# Altium footprint library TTC_Lib.PcbLib: 21 footprints (part 1 of 2)
Each footprint in its own frame and in the unit in brackets; x right, y up, seen from the top. Pads: shape width x height; smd on the part's side, far side on the other; paste and mask are expansions set on the pad; w line width, h text height; cw(c..) or ccw(c..) is an arc to the next point about the centre after c.
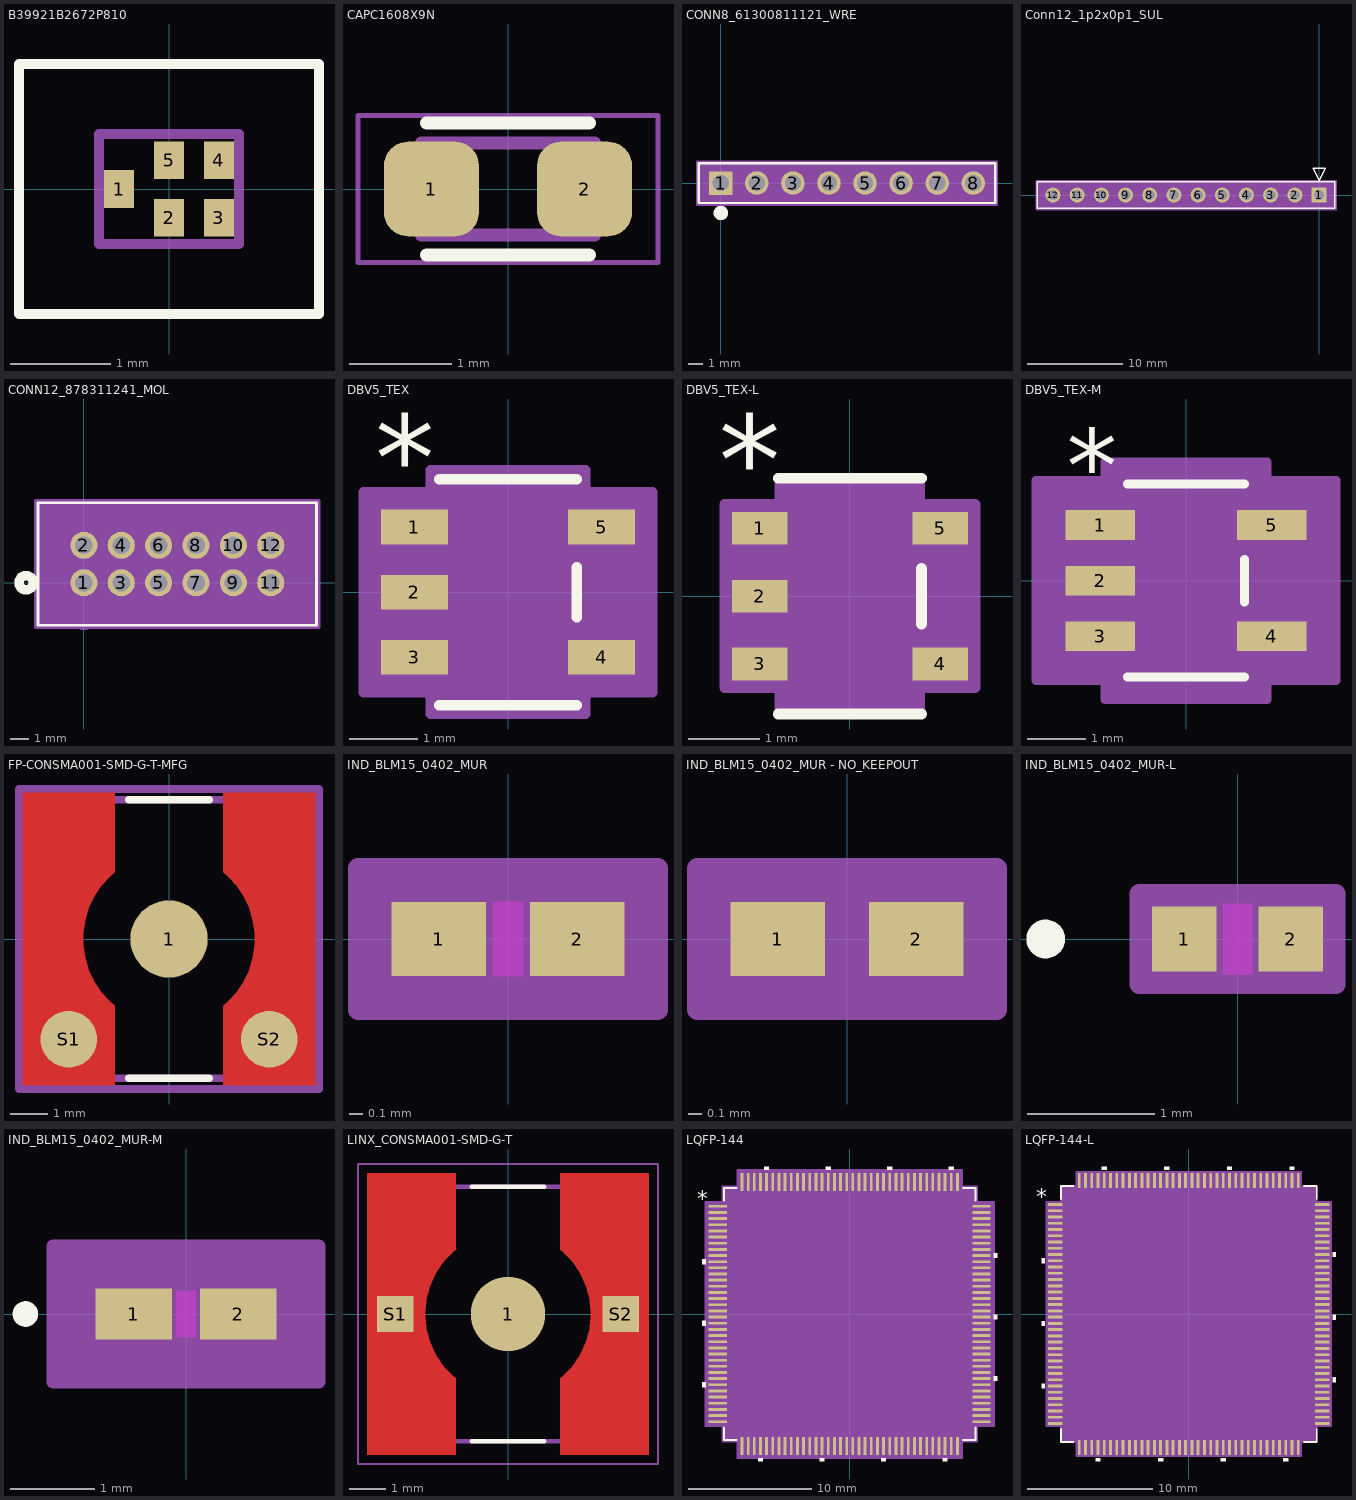
[diagram p0: the footprints below, top view; thin cyan lines are the x and y axes]

## B39921B2672P810 [mm]
pads (5):
  rect 0.3x0.375 smd: 1(-0.5,0) 2(0,-0.288) 3(0.5,-0.288) 4(0.5,0.288) 5(0,0.288)
Top Overlay:
  lines w0.1: -1.5,-1.25 1.5,-1.25 1.5,1.25 -1.5,1.25 -1.5,-1.25
Top Assembly:
  lines w0.1: -0.7,-0.55 0.7,-0.55 0.7,0.55 -0.7,0.55 -0.7,-0.55

## CAPC1608X9N [mm]
pads (2):
  rrect50% 0.93x0.93 smd: 1(-0.75,0) 2(0.75,0)
Top Overlay:
  lines w0.127: -0.8,-0.645 0.8,-0.645 ; -0.8,0.645 0.8,0.645
Mechanical 13:
  lines w0.127: -0.85,-0.45 0.85,-0.45 0.85,0.45 -0.85,0.45 -0.85,-0.45
Mechanical 15:
  lines w0.05: -1.47,-0.72 -1.47,0.72 1.47,0.72 1.47,-0.72 -1.47,-0.72

## CONN8_61300811121_WRE [mil]
pads (8):
  rect 65x65 / inner round 60 / far side rect 65x65 hole 45 paste-99999 mask+0: 1(0,0)
  round 65 / inner round 60 / far side round 65 hole 45 paste-99999 mask+0: 2(100,0) 3(200,0) 4(300,0) 5(400,0) 6(500,0) 7(600,0) 8(700,0)
Top Overlay:
  circle w20: c0,-83 r10
  lines w6: -61,-55 -61,55 761,55 761,-55 -61,-55
Mechanical 13:
  circle w0: c0,-35 r10
  lines w1: -56,-50 -56,50 756,50 756,-50 -56,-50
Mechanical 15:
  region: 766,60 -66,60 -66,-60 766,-60
  lines w6: -66,-60 766,-60 766,60 -66,60 -66,-60
3D body "CONN8_61300811121_WRE.step": height 335.98, standoff -200, extent -50,-50 750,50

## Conn12_1p2x0p1_SUL [mil]
pads (12):
  rect 62x62 / inner round 60 / far side rect 62x62 hole 42 paste-99999 mask+0: 1(0,0)
  round 62 / inner round 60 / far side round 62 hole 42 paste-99999 mask+0: 2(-100,0) 3(-200,0) 4(-300,0) 5(-400,0) 6(-500,0) 7(-600,0) 8(-700,0) 9(-800,0) 10(-900,0) 11(-1000,0) 12(-1100,0)
Top Overlay:
  lines w6: -1165,-55 -1165,55 65,55 65,-55 -1165,-55 ; -25,110 25,110 0,60 -25,110
Mechanical 13:
  lines w1: -1160,-50 -1160,50 60,50 60,-50 -1160,-50 ; -25,110 25,110 0,60 -25,110
Mechanical 15:
  region: 70,60 -1170,60 -1170,-60 70,-60
  lines w6: -1170,-60 70,-60 70,60 -1170,60 -1170,-60

## CONN12_878311241_MOL [mil]
pads (12):
  round 57 hole 37 paste-99999 mask+0: 1(0,0) 2(0,78.74) 3(78.74,0) 4(78.74,78.74) 5(157.48,0) 6(157.48,78.74) 7(236.22,0) 8(236.22,78.74) 9(314.96,0) 10(314.96,78.74) 11(393.7,0) 12(393.7,78.74)
Top Overlay:
  circle w20: c-121.65,0 r15
  lines w6: -96.65,-89.61 490.35,-89.61 490.35,168.39 -96.65,168.39 -96.65,-89.61
Bottom Overlay:
  circle w20: c-121.65,0 r15
Mechanical 13:
  circle w20: c0,-75 r15
  lines w1: -91.65,-84.61 -91.65,163.39 485.35,163.39 485.35,-84.61 -91.65,-84.61
Mechanical 15:
  region: 495.35,173.39 -101.65,173.39 -101.65,-94.61 495.35,-94.61
  lines w6: -101.65,-94.61 495.35,-94.61 495.35,173.39 -101.65,173.39 -101.65,-94.61

## DBV5_TEX [mil]
pads (5):
  rect 38.5x20 smd paste+0 mask+0: 1(-53.75,37.4) 2(-53.75,0) 3(-53.75,-37.4) 4(53.75,-37.4) 5(53.75,37.4)
Top Overlay:
  lines w6: -39.5,-65 39.5,-65 ; -39.5,65 39.5,65 ; 39.5,-14.3 39.5,14.3
  text "*" at -76.25,52.4 h50
Mechanical 13:
  lines w0: -12,60 ccw(c0,60) 12,60
  lines w1: -59,-47.4 -34.5,-47.4 -34.5,-27.4 -59,-27.4 -59,-47.4 ; -59,-10 -34.5,-10 -34.5,10 -59,10 -59,-10 ; -59,27.4 -34.5,27.4 -34.5,47.4 -59,47.4 -59,27.4 ; -34.5,-60 -34.5,60 34.5,60 34.5,-60 -34.5,-60 ; 34.5,-47.4 59,-47.4 59,-27.4 34.5,-27.4 34.5,-47.4 ; 34.5,27.4 59,27.4 59,47.4 34.5,47.4 34.5,27.4
  text "*" at -37,14.4 h50
Mechanical 15:
  region: 44.5,-70 -44.5,-70 -44.5,-57.4 -83,-57.4 -83,57.4 -44.5,57.4 -44.5,70 44.5,70 44.5,57.4 83,57.4 83,-57.4 44.5,-57.4
  lines w6: -83,-57.4 -83,57.4 -44.5,57.4 -44.5,70 44.5,70 44.5,57.4 83,57.4 83,-57.4 44.5,-57.4 44.5,-70 -44.5,-70 -44.5,-57.4 -83,-57.4
3D body "DBV5_TEX.step": height 57.09, standoff 0, extent -59.02,-60 59.02,60

## DBV5_TEX-L [mil]
pads (5):
  rect 30.5x18 smd paste+0 mask+0: 1(-49.75,37.4) 2(-49.75,0) 3(-49.75,-37.4) 4(49.75,-37.4) 5(49.75,37.4)
Top Overlay:
  lines w6: -39.5,-65 39.5,-65 ; -39.5,65 39.5,65 ; 39.5,-15.3 39.5,15.3
  text "*" at -72.25,50.4 h50
Mechanical 13:
  lines w0: -12,60 ccw(c0,60) 12,60
  lines w1: -59,-47.4 -59,-27.4 -34.5,-27.4 -34.5,-47.4 -59,-47.4 ; -59,-10 -59,10 -34.5,10 -34.5,-10 -59,-10 ; -59,27.4 -59,47.4 -34.5,47.4 -34.5,27.4 -59,27.4 ; -34.5,-60 34.5,-60 34.5,60 -34.5,60 -34.5,-60 ; 34.5,-47.4 34.5,-27.4 59,-27.4 59,-47.4 34.5,-47.4 ; 34.5,27.4 34.5,47.4 59,47.4 59,27.4 34.5,27.4
  text "*" at -37,12.4 h50
Mechanical 15:
  region: 38.5,-64 -38.5,-64 -38.5,-50.4 -69,-50.4 -69,50.4 -38.5,50.4 -38.5,64 38.5,64 38.5,50.4 69,50.4 69,-50.4 38.5,-50.4
  lines w6: -69,-50.4 -38.5,-50.4 -38.5,-64 38.5,-64 38.5,-50.4 69,-50.4 69,50.4 38.5,50.4 38.5,64 -38.5,64 -38.5,50.4 -69,50.4 -69,-50.4
3D body "DBV5_TEX.step": height 57.09, standoff 0, extent -59.02,-60 59.02,60

## DBV5_TEX-M [mil]
pads (5):
  rect 46.5x20 smd paste+0 mask+0: 1(-57.75,37.4) 2(-57.75,0) 3(-57.75,-37.4) 4(57.75,-37.4) 5(57.75,37.4)
Top Overlay:
  lines w6: -39.5,-65 39.5,-65 ; -39.5,65 39.5,65 ; 39.5,-14.3 39.5,14.3
  text "*" at -80.25,52.4 h50
Mechanical 13:
  lines w0: -12,60 ccw(c0,60) 12,60
  lines w1: -59,-47.4 -34.5,-47.4 -34.5,-27.4 -59,-27.4 -59,-47.4 ; -59,-10 -34.5,-10 -34.5,10 -59,10 -59,-10 ; -59,27.4 -34.5,27.4 -34.5,47.4 -59,47.4 -59,27.4 ; -34.5,-60 -34.5,60 34.5,60 34.5,-60 -34.5,-60 ; 34.5,-47.4 59,-47.4 59,-27.4 34.5,-27.4 34.5,-47.4 ; 34.5,27.4 59,27.4 59,47.4 34.5,47.4 34.5,27.4
  text "*" at -37,14.4 h50
Mechanical 15:
  region: 54.5,-80 -54.5,-80 -54.5,-67.4 -101,-67.4 -101,67.4 -54.5,67.4 -54.5,80 54.5,80 54.5,67.4 101,67.4 101,-67.4 54.5,-67.4
  lines w6: -101,-67.4 -101,67.4 -54.5,67.4 -54.5,80 54.5,80 54.5,67.4 101,67.4 101,-67.4 54.5,-67.4 54.5,-80 -54.5,-80 -54.5,-67.4 -101,-67.4
3D body "DBV5_TEX.step": height 57.09, standoff 0, extent -59.02,-60 59.02,60

## FP-CONSMA001-SMD-G-T-MFG [mm]
pads (3):
  round 2.05 smd paste+0 mask+0: 1(0,0)
  round 1.5 smd paste+0 mask+0: S1(-2.66,-2.66) S2(2.66,-2.66)
Top Layer:
  region: 3.88,3.88 1.44,3.88 1.44,1.768 1.567,1.657 1.794,1.408 1.981,1.128 2.126,0.824 2.224,0.502 2.274,0.168 2.274,-0.168 2.224,-0.502 2.126,-0.824 1.981,-1.128 1.794,-1.408 1.567,-1.656 1.44,-1.768 1.44,-3.88 3.88,-3.88
  region: -3.88,3.88 -1.44,3.88 -1.44,1.768 -1.567,1.657 -1.794,1.408 -1.981,1.128 -2.126,0.824 -2.224,0.502 -2.274,0.168 -2.274,-0.168 -2.224,-0.502 -2.126,-0.824 -1.981,-1.128 -1.794,-1.408 -1.567,-1.657 -1.44,-1.768 -1.44,-3.88 -3.88,-3.88
Top Overlay:
  lines w0.2: -1.065,-3.7 1.065,-3.7 ; -1.065,3.7 1.065,3.7
Top 3D Body:
  lines w0.2: -3.7,-3.7 -3.7,3.7 3.7,3.7 3.7,-3.7 -3.7,-3.7
Top Courtyard:
  lines w0.2: -3.98,-3.98 -3.98,3.98 3.98,3.98 3.98,-3.98 -3.98,-3.98
Top Assembly:
  lines w0.2: -3.98,-3.98 -3.98,3.98 3.98,3.98 3.98,-3.98 -3.98,-3.98
  text ".Designator" at 0,0.187 h1
Top Component Center:
  lines w0.1: -0.5,0 0.5,0 ; 0,-0.5 0,0.5
3D body "Conn_Linx_Technologies_CONSMA001-SMD-G-T_eec.STEP": height 0.25, standoff 0, extent -3.98,-3.98 3.98,3.98

## IND_BLM15_0402_MUR [mil]
pads (2):
  rect 28x22 smd paste+0 mask+0: 1(-20.5,0) 2(20.5,0)
Top Layer keep-out:
  region: -4.5,-9 -4.5,9 4.5,9 4.5,-9
Keep-Out Layer:
  region: -4.5,-11 -4.5,11 4.5,11 4.5,-11
Mechanical 13:
  lines w1: -20.5,-11 -20.5,11 ; -20.5,-11 -6.5,-11 -6.5,11 -20.5,11 ; -20.5,-11 20.5,-11 ; -20.5,-11 -20.5,11 ; -20.5,11 20.5,11 ; 20.5,-11 6.5,-11 6.5,11 20.5,11 ; 20.5,-11 20.5,11 ; 20.5,-11 20.5,11
Mechanical 15:
  region: 44.5,-21 -44.5,-21 -44.5,21 44.5,21
  lines w6: -44.5,-21 -44.5,21 44.5,21 44.5,-21 -44.5,-21
3D body "IND_BLM15_0402_MUR.step": height 22.01, standoff 0, extent -20.51,-10.98 20.51,10.98

## IND_BLM15_0402_MUR - NO_KEEPOUT [mil]
pads (2):
  rect 28x22 smd paste+0 mask+0: 1(-20.5,0) 2(20.5,0)
Mechanical 13:
  lines w1: -20.5,-11 -20.5,11 ; -20.5,-11 -6.5,-11 -6.5,11 -20.5,11 ; -20.5,-11 20.5,-11 ; -20.5,-11 -20.5,11 ; -20.5,11 20.5,11 ; 20.5,-11 6.5,-11 6.5,11 20.5,11 ; 20.5,-11 20.5,11 ; 20.5,-11 20.5,11
Mechanical 15:
  region: 44.5,-21 -44.5,-21 -44.5,21 44.5,21
  lines w6: -44.5,-21 -44.5,21 44.5,21 44.5,-21 -44.5,-21
3D body "IND_BLM15_0402_MUR.step": height 22.01, standoff 0, extent -20.51,-10.98 20.51,10.98

## IND_BLM15_0402_MUR-L [mil]
pads (2):
  rect 20x20 smd paste+0 mask+0: 1(-16.5,0) 2(16.5,0)
Top Layer keep-out:
  region: -4.5,-9 -4.5,9 4.5,9 4.5,-9
Top Overlay:
  circle w6: c-59.5,0 r3
Keep-Out Layer:
  region: -4.5,-11 -4.5,11 4.5,11 4.5,-11
Mechanical 13:
  circle w0: c-11.5,0 r3
  lines w1: -20.5,-11 -20.5,11 ; -20.5,-11 -6.5,-11 -6.5,11 -20.5,11 ; -20.5,-11 20.5,-11 ; -20.5,-11 -20.5,11 ; -20.5,11 20.5,11 ; 20.5,-11 6.5,-11 6.5,11 20.5,11 ; 20.5,-11 20.5,11 ; 20.5,-11 20.5,11
Mechanical 15:
  region: 30.5,-14 -30.5,-14 -30.5,14 30.5,14
  lines w6: -30.5,-14 -30.5,14 30.5,14 30.5,-14 -30.5,-14
3D body "IND_BLM15_0402_MUR.step": height 22.01, standoff 0, extent -20.51,-10.98 20.51,10.98

## IND_BLM15_0402_MUR-M [mil]
pads (2):
  rect 36x24 smd paste+0: 1(-24.5,0) 2(24.5,0)
Top Layer keep-out:
  region: -4.5,-9 -4.5,9 4.5,9 4.5,-9
Top Overlay:
  circle w6: c-75.5,0 r3
Keep-Out Layer:
  region: -4.5,-11 -4.5,11 4.5,11 4.5,-11
Mechanical 13:
  circle w0: c-19.5,0 r3
  lines w1: -20.5,-11 -20.5,11 ; -20.5,-11 -6.5,-11 -6.5,11 -20.5,11 ; -20.5,-11 20.5,-11 ; -20.5,-11 -20.5,11 ; -20.5,11 20.5,11 ; 20.5,-11 6.5,-11 6.5,11 20.5,11 ; 20.5,-11 20.5,11 ; 20.5,-11 20.5,11
Mechanical 15:
  region: 62.5,-32 -62.5,-32 -62.5,32 62.5,32
  lines w6: -62.5,-32 -62.5,32 62.5,32 62.5,-32 -62.5,-32
3D body "IND_BLM15_0402_MUR.step": height 22.01, standoff 0, extent -20.51,-10.98 20.51,10.98

## LINX_CONSMA001-SMD-G-T [mm]
pads (3):
  round 2.05 smd: 1(0,0)
  rect 1x1 smd paste-1 mask+0: S1(-3.1,0) S2(3.1,0)
Top Layer:
  region: -1.44,1.77 -1.503,1.716 -1.553,1.67 -1.601,1.623 -1.648,1.575 -1.694,1.525 -1.738,1.474 -1.78,1.422 -1.821,1.368 -1.861,1.314 -1.899,1.258 -1.935,1.201 -1.97,1.143 -2.002,1.084 -2.033,1.025 -2.063,0.964 -2.09,0.902 -2.116,0.84 -2.14,0.777 -2.162,0.713 -2.183,0.649 -2.201,0.584 -2.218,0.519 -2.232,0.453 -2.245,0.387 -2.256,0.32 -2.264,0.253 -2.271,0.186 -2.276,0.119 -2.279,0.052 -2.28,0 -2.279,-0.052 -2.276,-0.119 -2.271,-0.186 -2.264,-0.253 -2.256,-0.32 -2.245,-0.387 -2.232,-0.453 -2.218,-0.519 -2.201,-0.584 -2.183,-0.649 -2.162,-0.713 -2.14,-0.777 -2.116,-0.84 -2.09,-0.902 -2.063,-0.964 -2.033,-1.025 -2.002,-1.084 -1.97,-1.143 -1.935,-1.201 -1.899,-1.258 -1.861,-1.314 -1.821,-1.368 -1.78,-1.422 -1.738,-1.474 -1.694,-1.525 -1.648,-1.575 -1.601,-1.623 -1.553,-1.67 -1.503,-1.716 -1.44,-1.77 -1.44,-3.88 -3.88,-3.88 -3.88,3.88 -1.44,3.88
  region: 3.88,-3.88 1.44,-3.88 1.44,-1.77 1.503,-1.716 1.553,-1.67 1.601,-1.623 1.648,-1.575 1.694,-1.525 1.738,-1.474 1.78,-1.422 1.821,-1.368 1.861,-1.314 1.899,-1.258 1.935,-1.201 1.97,-1.143 2.002,-1.084 2.033,-1.025 2.063,-0.964 2.09,-0.902 2.116,-0.84 2.14,-0.777 2.162,-0.713 2.183,-0.649 2.201,-0.584 2.218,-0.519 2.232,-0.453 2.245,-0.387 2.256,-0.32 2.264,-0.253 2.271,-0.186 2.276,-0.119 2.279,-0.052 2.28,0 2.279,0.052 2.276,0.119 2.271,0.186 2.264,0.253 2.256,0.32 2.245,0.387 2.232,0.453 2.218,0.519 2.201,0.584 2.183,0.649 2.162,0.713 2.14,0.777 2.116,0.84 2.09,0.902 2.063,0.964 2.033,1.025 2.002,1.084 1.97,1.143 1.935,1.201 1.899,1.258 1.861,1.314 1.821,1.368 1.78,1.422 1.738,1.474 1.694,1.525 1.648,1.575 1.601,1.623 1.553,1.67 1.503,1.716 1.44,1.77 1.44,2.35 1.44,3.88 3.88,3.88
Top Overlay:
  lines w0.127: -1,-3.5 1,-3.5 ; -1,3.5 1,3.5
Top Paste:
  region: -1.44,1.77 -1.503,1.716 -1.553,1.67 -1.601,1.623 -1.648,1.575 -1.694,1.525 -1.738,1.474 -1.78,1.422 -1.821,1.368 -1.861,1.314 -1.899,1.258 -1.935,1.201 -1.97,1.143 -2.002,1.084 -2.033,1.025 -2.063,0.964 -2.09,0.902 -2.116,0.84 -2.14,0.777 -2.162,0.713 -2.183,0.649 -2.201,0.584 -2.218,0.519 -2.232,0.453 -2.245,0.387 -2.256,0.32 -2.264,0.253 -2.271,0.186 -2.276,0.119 -2.279,0.052 -2.28,0 -2.279,-0.052 -2.276,-0.119 -2.271,-0.186 -2.264,-0.253 -2.256,-0.32 -2.245,-0.387 -2.232,-0.453 -2.218,-0.519 -2.201,-0.584 -2.183,-0.649 -2.162,-0.713 -2.14,-0.777 -2.116,-0.84 -2.09,-0.902 -2.063,-0.964 -2.033,-1.025 -2.002,-1.084 -1.97,-1.143 -1.935,-1.201 -1.899,-1.258 -1.861,-1.314 -1.821,-1.368 -1.78,-1.422 -1.738,-1.474 -1.694,-1.525 -1.648,-1.575 -1.601,-1.623 -1.553,-1.67 -1.503,-1.716 -1.44,-1.77 -1.44,-3.88 -3.88,-3.88 -3.88,3.88 -1.44,3.88
  region: 3.88,-3.88 1.44,-3.88 1.44,-1.77 1.503,-1.716 1.553,-1.67 1.601,-1.623 1.648,-1.575 1.694,-1.525 1.738,-1.474 1.78,-1.422 1.821,-1.368 1.861,-1.314 1.899,-1.258 1.935,-1.201 1.97,-1.143 2.002,-1.084 2.033,-1.025 2.063,-0.964 2.09,-0.902 2.116,-0.84 2.14,-0.777 2.162,-0.713 2.183,-0.649 2.201,-0.584 2.218,-0.519 2.232,-0.453 2.245,-0.387 2.256,-0.32 2.264,-0.253 2.271,-0.186 2.276,-0.119 2.279,-0.052 2.28,0 2.279,0.052 2.276,0.119 2.271,0.186 2.264,0.253 2.256,0.32 2.245,0.387 2.232,0.453 2.218,0.519 2.201,0.584 2.183,0.649 2.162,0.713 2.14,0.777 2.116,0.84 2.09,0.902 2.063,0.964 2.033,1.025 2.002,1.084 1.97,1.143 1.935,1.201 1.899,1.258 1.861,1.314 1.821,1.368 1.78,1.422 1.738,1.474 1.694,1.525 1.648,1.575 1.601,1.623 1.553,1.67 1.503,1.716 1.44,1.77 1.44,3.88 3.88,3.88
Top Solder:
  region: -1.34,1.77 -1.385,1.731 -1.436,1.684 -1.485,1.636 -1.533,1.587 -1.58,1.536 -1.625,1.484 -1.669,1.43 -1.711,1.375 -1.751,1.32 -1.79,1.262 -1.827,1.204 -1.862,1.145 -1.896,1.085 -1.928,1.024 -1.958,0.962 -1.986,0.899 -2.012,0.835 -2.037,0.77 -2.06,0.705 -2.08,0.639 -2.099,0.573 -2.116,0.506 -2.131,0.439 -2.144,0.371 -2.155,0.303 -2.164,0.235 -2.171,0.166 -2.176,0.097 -2.179,0.028 -2.18,-0.05 -2.176,-0.126 -2.171,-0.19 -2.164,-0.254 -2.156,-0.318 -2.145,-0.381 -2.133,-0.444 -2.118,-0.507 -2.102,-0.569 -2.084,-0.631 -2.065,-0.692 -2.043,-0.753 -2.02,-0.813 -1.995,-0.872 -1.968,-0.931 -1.94,-0.988 -1.91,-1.045 -1.878,-1.101 -1.845,-1.156 -1.81,-1.21 -1.774,-1.263 -1.736,-1.315 -1.696,-1.366 -1.655,-1.416 -1.613,-1.464 -1.569,-1.511 -1.524,-1.557 -1.478,-1.602 -1.43,-1.645 -1.381,-1.687 -1.34,-1.72 -1.34,-3.98 -3.98,-3.98 -3.98,3.98 -1.34,3.98
  region: 3.98,-3.98 1.34,-3.98 1.34,-1.72 1.391,-1.677 1.441,-1.633 1.489,-1.588 1.536,-1.542 1.581,-1.494 1.625,-1.445 1.667,-1.395 1.708,-1.343 1.748,-1.29 1.786,-1.237 1.822,-1.182 1.857,-1.126 1.89,-1.069 1.921,-1.011 1.951,-0.952 1.979,-0.892 2.005,-0.832 2.03,-0.771 2.053,-0.709 2.074,-0.647 2.093,-0.584 2.11,-0.52 2.125,-0.456 2.139,-0.391 2.15,-0.327 2.16,-0.261 2.168,-0.196 2.174,-0.13 2.178,-0.065 2.18,0 2.179,0.052 2.176,0.119 2.171,0.186 2.164,0.253 2.156,0.32 2.145,0.387 2.132,0.453 2.118,0.519 2.101,0.584 2.083,0.649 2.062,0.713 2.04,0.777 2.016,0.84 1.99,0.902 1.963,0.964 1.933,1.025 1.902,1.084 1.87,1.143 1.835,1.201 1.799,1.258 1.761,1.314 1.721,1.368 1.68,1.422 1.638,1.474 1.594,1.525 1.548,1.575 1.501,1.623 1.453,1.67 1.403,1.716 1.34,1.77 1.34,3.98 3.98,3.98
Mechanical 13:
  lines w0.127: -3.5,-3.5 -3.5,3.5 3.5,3.5 3.5,-3.5 -3.5,-3.5
Mechanical 15:
  lines w0.05: -4.13,-4.13 -4.13,4.13 4.13,4.13 4.13,-4.13 -4.13,-4.13
3D body "step_temp.STEP": height 3.5, standoff -3.5, extent -3.5,0 3.5,10.4

## LQFP-144 [mil]
pads (144):
  rect 58x9 smd paste+0 mask+0: 1(-422,344.49) 2(-422,324.8) 3(-422,305.12) 4(-422,285.43) 5(-422,265.75) 6(-422,246.06) 7(-422,226.38) 8(-422,206.69) 9(-422,187.01) 10(-422,167.32) 11(-422,147.64) 12(-422,127.95) 13(-422,108.27) 14(-422,88.58) 15(-422,68.9) 16(-422,49.21) 17(-422,29.53) 18(-422,9.84) 19(-422,-9.84) 20(-422,-29.53) 21(-422,-49.21) 22(-422,-68.9) 23(-422,-88.58) 24(-422,-108.27) 25(-422,-127.95) 26(-422,-147.64) 27(-422,-167.32) 28(-422,-187.01) 29(-422,-206.69) 30(-422,-226.38) 31(-422,-246.06) 32(-422,-265.75) 33(-422,-285.43) 34(-422,-305.12) 35(-422,-324.8) 36(-422,-344.49) 73(422,-344.49) 74(422,-324.8) 75(422,-305.12) 76(422,-285.43) 77(422,-265.75) 78(422,-246.06) 79(422,-226.38) 80(422,-206.69) 81(422,-187.01) 82(422,-167.32) 83(422,-147.64) 84(422,-127.95) 85(422,-108.27) 86(422,-88.58) 87(422,-68.9) 88(422,-49.21) 89(422,-29.53) 90(422,-9.84) 91(422,9.84) 92(422,29.53) 93(422,49.21) 94(422,68.9) 95(422,88.58) 96(422,108.27) 97(422,127.95) 98(422,147.64) 99(422,167.32) 100(422,187.01) 101(422,206.69) 102(422,226.38) 103(422,246.06) 104(422,265.75) 105(422,285.43) 106(422,305.12) 107(422,324.8) 108(422,344.49)
  rect 9x58 smd paste+0 mask+0: 37(-344.49,-422) 38(-324.8,-422) 39(-305.12,-422) 40(-285.43,-422) 41(-265.75,-422) 42(-246.06,-422) 43(-226.38,-422) 44(-206.69,-422) 45(-187.01,-422) 46(-167.32,-422) 47(-147.64,-422) 48(-127.95,-422) 49(-108.27,-422) 50(-88.58,-422) 51(-68.9,-422) 52(-49.21,-422) 53(-29.53,-422) 54(-9.84,-422) 55(9.84,-422) 56(29.53,-422) 57(49.21,-422) 58(68.9,-422) 59(88.58,-422) 60(108.27,-422) 61(127.95,-422) 62(147.64,-422) 63(167.32,-422) 64(187.01,-422) 65(206.69,-422) 66(226.38,-422) 67(246.06,-422) 68(265.75,-422) 69(285.43,-422) 70(305.12,-422) 71(324.8,-422) 72(344.49,-422) 109(344.49,422) 110(324.8,422) 111(305.12,422) 112(285.43,422) 113(265.75,422) 114(246.06,422) 115(226.38,422) 116(206.69,422) 117(187.01,422) 118(167.32,422) 119(147.64,422) 120(127.95,422) 121(108.27,422) 122(88.58,422) 123(68.9,422) 124(49.21,422) 125(29.53,422) 126(9.84,422) 127(-9.84,422) 128(-29.53,422) 129(-49.21,422) 130(-68.9,422) 131(-88.58,422) 132(-108.27,422) 133(-127.95,422) 134(-147.64,422) 135(-167.32,422) 136(-187.01,422) 137(-206.69,422) 138(-226.38,422) 139(-246.06,422) 140(-265.75,422) 141(-285.43,422) 142(-305.12,422) 143(-324.8,422) 144(-344.49,422)
Top Overlay:
  region: -461,174.82 -471,174.82 -471,159.82 -461,159.82
  region: -461,-22.03 -471,-22.03 -471,-37.03 -461,-37.03
  region: -461,-218.88 -471,-218.88 -471,-233.88 -461,-233.88
  region: -277.93,-461 -292.93,-461 -292.93,-471 -277.93,-471
  region: -81.08,-461 -96.08,-461 -96.08,-471 -81.08,-471
  region: 115.77,-461 100.77,-461 100.77,-471 115.77,-471
  region: 312.62,-461 297.62,-461 297.62,-471 312.62,-471
  region: 461,-199.19 471,-199.19 471,-214.19 461,-214.19
  region: 461,-2.34 471,-2.34 471,-17.34 461,-17.34
  region: 461,194.51 471,194.51 471,179.51 461,179.51
  region: 332.3,461 317.3,461 317.3,471 332.3,471
  region: 135.45,461 120.45,461 120.45,471 135.45,471
  region: -61.4,461 -76.4,461 -76.4,471 -61.4,471
  region: -258.25,461 -273.25,461 -273.25,471 -258.25,471
  lines w6: -402.5,-362.09 -402.5,-402.5 -362.09,-402.5 ; -402.5,362.09 -402.5,402.5 -362.09,402.5 ; 362.09,-402.5 402.5,-402.5 402.5,-362.09 ; 362.09,402.5 402.5,402.5 402.5,362.09
  text "*" at -488.5,344.33 h50
Mechanical 13:
  drawing of 581 lines, arcs and shapes, not listed
  text "*" at -395,329.33 h50
Mechanical 15:
  region: -358.99,-407.5 -407.5,-407.5 -407.5,-358.99 -461,-358.99 -461,358.99 -407.5,358.99 -407.5,407.5 -358.99,407.5 -358.99,461 358.99,461 358.99,407.5 407.5,407.5 407.5,358.99 461,358.99 461,-358.99 407.5,-358.99 407.5,-407.5 358.99,-407.5 358.99,-461 -358.99,-461
  lines w6: -461,-358.99 -407.5,-358.99 -407.5,-407.5 -358.99,-407.5 -358.99,-461 358.99,-461 358.99,-407.5 407.5,-407.5 407.5,-358.99 461,-358.99 461,358.99 407.5,358.99 407.5,407.5 358.99,407.5 358.99,461 -358.99,461 -358.99,407.5 -407.5,407.5 -407.5,358.99 -461,358.99 -461,-358.99
3D body "LQFP-144.step": height 63.11, standoff 0, extent -437.01,-437.01 437.01,437.01

## LQFP-144-L [mil]
pads (144):
  rect 46x9 smd paste+0 mask+0: 1(-420,344.49) 2(-420,324.8) 3(-420,305.12) 4(-420,285.43) 5(-420,265.75) 6(-420,246.06) 7(-420,226.38) 8(-420,206.69) 9(-420,187.01) 10(-420,167.32) 11(-420,147.64) 12(-420,127.95) 13(-420,108.27) 14(-420,88.58) 15(-420,68.9) 16(-420,49.21) 17(-420,29.53) 18(-420,9.84) 19(-420,-9.84) 20(-420,-29.53) 21(-420,-49.21) 22(-420,-68.9) 23(-420,-88.58) 24(-420,-108.27) 25(-420,-127.95) 26(-420,-147.64) 27(-420,-167.32) 28(-420,-187.01) 29(-420,-206.69) 30(-420,-226.38) 31(-420,-246.06) 32(-420,-265.75) 33(-420,-285.43) 34(-420,-305.12) 35(-420,-324.8) 36(-420,-344.49) 73(420,-344.49) 74(420,-324.8) 75(420,-305.12) 76(420,-285.43) 77(420,-265.75) 78(420,-246.06) 79(420,-226.38) 80(420,-206.69) 81(420,-187.01) 82(420,-167.32) 83(420,-147.64) 84(420,-127.95) 85(420,-108.27) 86(420,-88.58) 87(420,-68.9) 88(420,-49.21) 89(420,-29.53) 90(420,-9.84) 91(420,9.84) 92(420,29.53) 93(420,49.21) 94(420,68.9) 95(420,88.58) 96(420,108.27) 97(420,127.95) 98(420,147.64) 99(420,167.32) 100(420,187.01) 101(420,206.69) 102(420,226.38) 103(420,246.06) 104(420,265.75) 105(420,285.43) 106(420,305.12) 107(420,324.8) 108(420,344.49)
  rect 9x46 smd paste+0 mask+0: 37(-344.49,-420) 38(-324.8,-420) 39(-305.12,-420) 40(-285.43,-420) 41(-265.75,-420) 42(-246.06,-420) 43(-226.38,-420) 44(-206.69,-420) 45(-187.01,-420) 46(-167.32,-420) 47(-147.64,-420) 48(-127.95,-420) 49(-108.27,-420) 50(-88.58,-420) 51(-68.9,-420) 52(-49.21,-420) 53(-29.53,-420) 54(-9.84,-420) 55(9.84,-420) 56(29.53,-420) 57(49.21,-420) 58(68.9,-420) 59(88.58,-420) 60(108.27,-420) 61(127.95,-420) 62(147.64,-420) 63(167.32,-420) 64(187.01,-420) 65(206.69,-420) 66(226.38,-420) 67(246.06,-420) 68(265.75,-420) 69(285.43,-420) 70(305.12,-420) 71(324.8,-420) 72(344.49,-420) 109(344.49,420) 110(324.8,420) 111(305.12,420) 112(285.43,420) 113(265.75,420) 114(246.06,420) 115(226.38,420) 116(206.69,420) 117(187.01,420) 118(167.32,420) 119(147.64,420) 120(127.95,420) 121(108.27,420) 122(88.58,420) 123(68.9,420) 124(49.21,420) 125(29.53,420) 126(9.84,420) 127(-9.84,420) 128(-29.53,420) 129(-49.21,420) 130(-68.9,420) 131(-88.58,420) 132(-108.27,420) 133(-127.95,420) 134(-147.64,420) 135(-167.32,420) 136(-187.01,420) 137(-206.69,420) 138(-226.38,420) 139(-246.06,420) 140(-265.75,420) 141(-285.43,420) 142(-305.12,420) 143(-324.8,420) 144(-344.49,420)
Top Overlay:
  region: -453,174.82 -463,174.82 -463,159.82 -453,159.82
  region: -453,-22.03 -463,-22.03 -463,-37.03 -453,-37.03
  region: -453,-218.88 -463,-218.88 -463,-233.88 -453,-233.88
  region: -277.93,-453 -292.93,-453 -292.93,-463 -277.93,-463
  region: -81.08,-453 -96.08,-453 -96.08,-463 -81.08,-463
  region: 115.77,-453 100.77,-453 100.77,-463 115.77,-463
  region: 312.62,-453 297.62,-453 297.62,-463 312.62,-463
  region: 453,-199.19 463,-199.19 463,-214.19 453,-214.19
  region: 453,-2.34 463,-2.34 463,-17.34 453,-17.34
  region: 453,194.51 463,194.51 463,179.51 453,179.51
  region: 332.3,453 317.3,453 317.3,463 332.3,463
  region: 135.45,453 120.45,453 120.45,463 135.45,463
  region: -61.4,453 -76.4,453 -76.4,463 -61.4,463
  region: -258.25,453 -273.25,453 -273.25,463 -258.25,463
  lines w6: -402.5,-362.09 -402.5,-402.5 -362.09,-402.5 ; -402.5,362.09 -402.5,402.5 -362.09,402.5 ; 362.09,-402.5 402.5,-402.5 402.5,-362.09 ; 362.09,402.5 402.5,402.5 402.5,362.09
  text "*" at -480.5,344.33 h50
Mechanical 13:
  drawing of 581 lines, arcs and shapes, not listed
  text "*" at -395,329.33 h50
Mechanical 15:
  region: -352.99,-401.5 -401.5,-401.5 -401.5,-352.99 -447,-352.99 -447,352.99 -401.5,352.99 -401.5,401.5 -352.99,401.5 -352.99,447 352.99,447 352.99,401.5 401.5,401.5 401.5,352.99 447,352.99 447,-352.99 401.5,-352.99 401.5,-401.5 352.99,-401.5 352.99,-447 -352.99,-447
  lines w6: -447,-352.99 -401.5,-352.99 -401.5,-401.5 -352.99,-401.5 -352.99,-447 352.99,-447 352.99,-401.5 401.5,-401.5 401.5,-352.99 447,-352.99 447,352.99 401.5,352.99 401.5,401.5 352.99,401.5 352.99,447 -352.99,447 -352.99,401.5 -401.5,401.5 -401.5,352.99 -447,352.99 -447,-352.99
3D body "LQFP-144.step": height 63.11, standoff 0, extent -437.01,-437.01 437.01,437.01